# EAGLE library part RT6154 (library Eagle_CAD_parts)
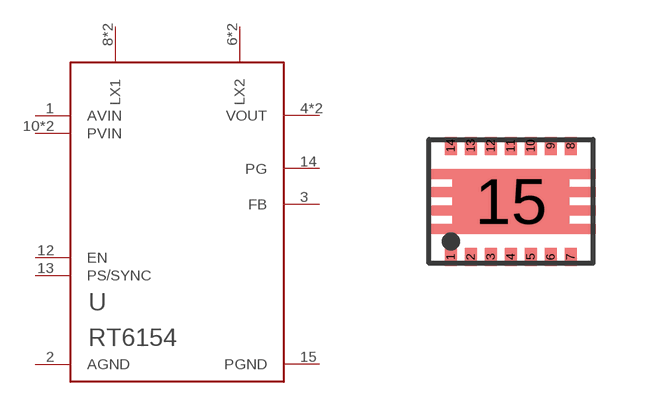
[diagram p62: symbol with the pads of WDFN-14AL-4X3; footprint WDFN-14AL-4X3]

Designator prefix U

## RT6154A (DIGIKEY_PART_NUMBER: 1028-1338-1-ND; MANUFACTURER_PART_NUMBER: RT6154AGQW; VOUT: Adj)  [WDFN-14AL-4X3]
1  AVIN
2  AGND
3  FB
4  VOUT
5  VOUT
6  LX2
7  LX2
8  LX1
9  LX1
10  PVIN
11  PVIN
12  EN
13  PS/SYNC
14  PG
15  PGND

## Footprint WDFN-14AL-4X3 (pad centres in mm)
smd 0.3 x 0.45: 1 -1.5,-1.39; 2 -1,-1.39; 3 -0.5,-1.39; 4 0,-1.39; 5 0.5,-1.39; 6 1,-1.39; 7 1.5,-1.39; 8 1.5,1.39; 9 1,1.39; 10 0.5,1.39; 11 0,1.39; 12 -0.5,1.39; 13 -1,1.39; 14 -1.5,1.39
smd 2.9 x 1.63: 15 0,0